# Altium schematic symbol library ATMEGA126.SchLib: 7 symbols
Pins are listed as number, name and electrical type; pins without a type are passive.

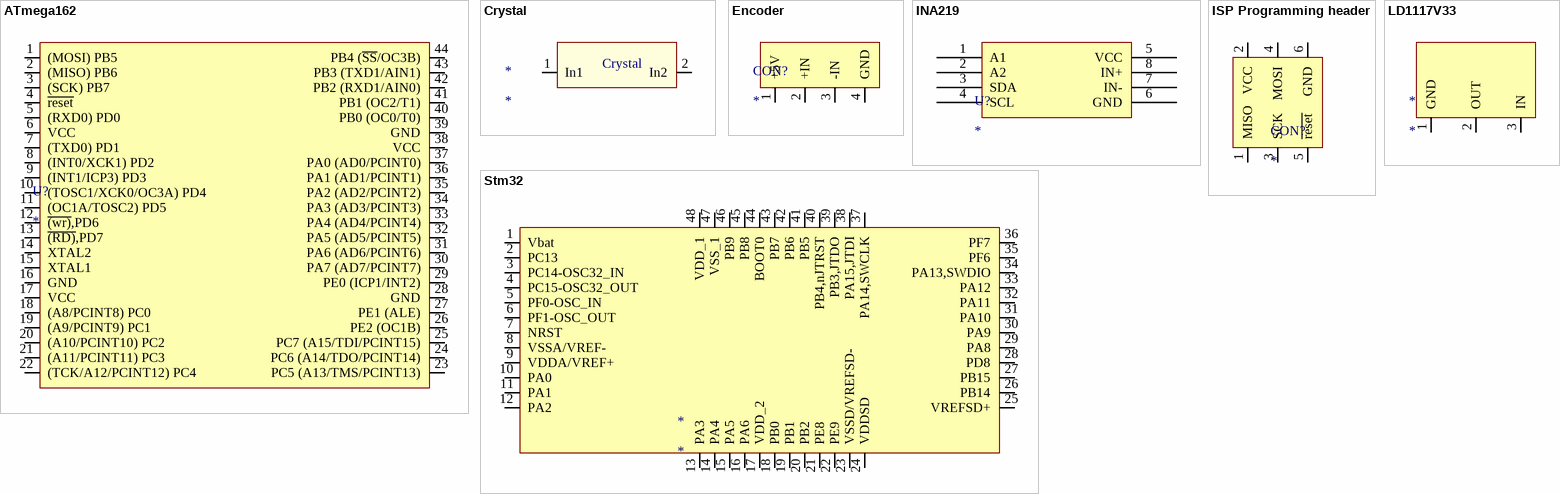
[diagram p0: symbols ATmega162 to Stm32]

## ATmega162
designator U?
footprint ATmga162
pins: 1 (MOSI) PB5, 2 (MISO) PB6, 3 (SCK) PB7, 4 ~{reset}, 5 (RXD0) PD0, 6 VCC, 7 (TXD0) PD1, 8 (INT0/XCK1) PD2, 9 (INT1/ICP3) PD3, 10 (TOSC1/XCK0/OC3A) PD4, 11 (OC1A/TOSC2) PD5, 12 ~{(wr}~{)},PD6, 13 ~{(RD)},PD7, 14 XTAL2, 15 XTAL1, 16 GND, 17 VCC, 18 (A8/PCINT8) PC0, 19 (A9/PCINT9) PC1, 20 (A10/PCINT10) PC2, 21 (A11/PCINT11) PC3, 22 (TCK/A12/PCINT12) PC4, 23 PC5 (A13/TMS/PCINT13), 24 PC6 (A14/TDO/PCINT14), 25 PC7 (A15/TDI/PCINT15), 26 PE2 (OC1B), 27 PE1 (ALE), 28 GND, 29 PE0 (ICP1/INT2), 30 PA7 (AD7/PCINT7), 31 PA6 (AD6/PCINT6), 32 PA5 (AD5/PCINT5), 33 PA4 (AD4/PCINT4), 34 PA3 (AD3/PCINT3), 35 PA2 (AD2/PCINT2), 36 PA1 (AD1/PCINT1), 37 PA0 (AD0/PCINT0), 38 VCC, 39 GND, 40 PB0 (OC0/T0), 41 PB1 (OC2/T1), 42 PB2 (RXD1/AIN0), 43 PB3 (TXD1/AIN1), 44 PB4 (~{SS}/OC3B)

## Crystal
designator *
footprint Crystal
pins: 1 In1, 2 In2

## Encoder
designator CON?
footprint ENCODER
pins: 1 +5V (power), 2 +IN, 3 -IN, 4 GND (power)

## INA219
designator U?
footprint INA219
pins: 1 A1, 2 A2, 3 SDA, 4 SCL, 5 VCC, 6 GND, 7 IN-, 8 IN+

## ISP Programming header
designator CON?
footprint ISP programming header
pins: 1 MISO, 2 VCC (power), 3 SCK, 4 MOSI, 5 ~{reset}, 6 GND (power)

## LD1117V33
designator *
footprint LD117vxx (TO-220)
pins: 1 GND, 2 OUT, 3 IN

## Stm32
designator *
footprint STM32F373CBT6
pins: 1 Vbat, 2 PC13, 3 PC14-OSC32_IN, 4 PC15-OSC32_OUT, 5 PF0-OSC_IN, 6 PF1-OSC_OUT, 7 NRST, 8 VSSA/VREF-, 9 VDDA/VREF+, 10 PA0, 11 PA1, 12 PA2, 13 PA3, 14 PA4, 15 PA5, 16 PA6, 17 VDD_2, 18 PB0, 19 PB1, 20 PB2, 21 PE8, 22 PE9, 23 VSSD/VREFSD-, 24 VDDSD, 25 VREFSD+, 26 PB14, 27 PB15, 28 PD8, 29 PA8, 30 PA9, 31 PA10, 32 PA11, 33 PA12, 34 PA13,SWDIO, 35 PF6, 36 PF7, 37 PA14,SWCLK, 38 PA15,JTDI, 39 PB3,JTDO, 40 PB4,nJTRST, 41 PB5, 42 PB6, 43 PB7, 44 BOOT0, 45 PB8, 46 PB9, 47 VSS_1, 48 VDD_1